# Altium footprint library L78L33ABUTR.PcbLib: 3 footprints
Each footprint in its own frame and in the unit in brackets; x right, y up, seen from the top. Pads: shape width x height; smd on the part's side, far side on the other; paste and mask are expansions set on the pad; w line width, h text height; cw(c..) or ccw(c..) is an arc to the next point about the centre after c.
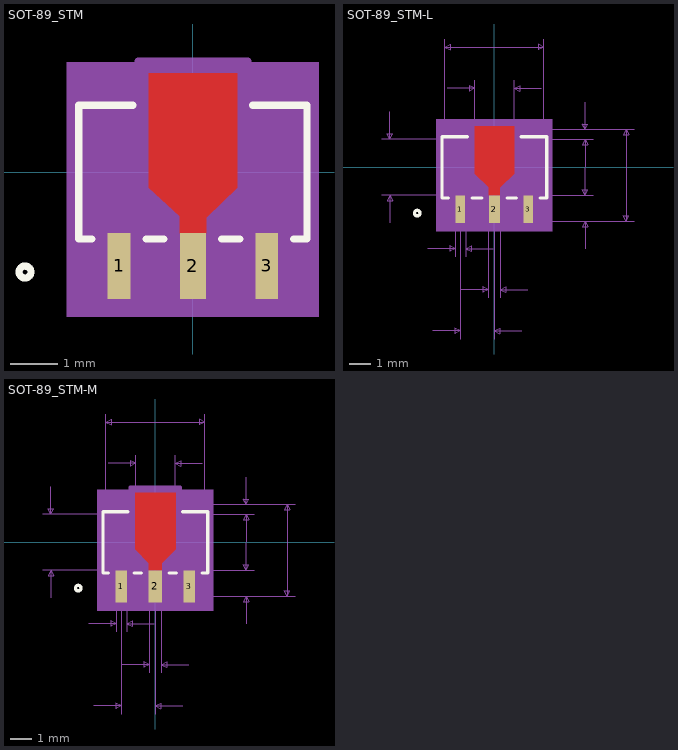
[diagram p0: the footprints below, top view; thin cyan lines are the x and y axes]

## SOT-89_STM [mil]
pads (3):
  rect 19x54.87 smd paste+0 mask+0: 1(-61.81,-78.44) 3(61.81,-78.44)
  rect 22x54.87 smd paste+0 mask+0: 2(0,-78.44)
Top Layer:
  region: 11,-51 -11,-51 -11,-37 -36.98,-12.98 -36.98,82.78 36.98,82.78 36.98,-12.98 11,-37.98
Top Overlay:
  circle w6: c-140.5,-83.5 r5
  lines w6: -84.41,-56 -95.5,-56 -95.5,56 -50.08,56 ; -39.21,-56 -24.1,-56 ; 24.1,-56 39.21,-56 ; 50.08,56 95.5,56 95.5,-56 84.41,-56
Top Paste:
  region: 11,-51 -11,-51 -11,-37 -36,-12 -36,76.87 36,76.87 36,-12 11,-37
Top Solder:
  region: 11,-51 -11,-51 -11,-37 -36,-12 -36,76.87 36,76.87 36,-12 11,-37
Mechanical 5:
  region: -105.5,91.87 105.5,91.87 105.5,-120.87 -105.5,-120.87
Mechanical 13:
  circle w0: c-80.5,-41 r5
  lines w1: -90.5,-51 -90.5,51 90.5,51 90.5,-51 -90.5,-51 ; -71.31,-98 -52.31,-98 -52.31,-51 -71.31,-51 -71.31,-98 ; -11,-98 11,-98 11,-51 -11,-51 -11,-98 ; 52.31,-98 71.31,-98 71.31,-51 52.31,-51 52.31,-98
Mechanical 15:
  region: -100.5,-61 -100.5,61 -46,61 -46,92.78 46,92.78 46,61 100.5,61 100.5,-61 81.81,-61 81.81,-115.87 -81.81,-115.87 -81.81,-61
  lines w6: -100.5,-61 -81.81,-61 -81.81,-115.87 81.81,-115.87 81.81,-61 100.5,-61 100.5,61 46,61 46,92.78 -46,92.78 -46,61 -100.5,61 -100.5,-61
3D body: height 10, standoff 0, extent 0,0 10,10

## SOT-89_STM-L [mm]
pads (3):
  rect 0.433x1.294 smd paste+0 mask+0: 1(-1.57,-1.942) 3(1.57,-1.942)
  rect 0.509x1.294 smd paste+0 mask+0: 2(0,-1.942)
Top Layer:
  region: 0.254,-1.295 -0.254,-1.295 -0.254,-0.915 -0.914,-0.305 -0.914,1.903 0.914,1.903 0.914,-0.305 0.254,-0.94
Top Overlay:
  circle w0.152: c-3.569,-2.121 r0.127
  lines w0.152: -2.119,-1.422 -2.426,-1.422 -2.426,1.422 -1.247,1.422 ; -1.021,-1.422 -0.587,-1.422 ; 0.587,-1.422 1.021,-1.422 ; 1.247,1.422 2.426,1.422 2.426,-1.422 2.119,-1.422
Top Paste:
  region: 0.254,-1.27 -0.254,-1.27 -0.254,-0.915 -0.889,-0.28 -0.889,1.853 0.889,1.853 0.889,-0.28 0.254,-0.915
Top Solder:
  region: 0.254,-1.27 -0.254,-1.27 -0.254,-0.915 -0.889,-0.28 -0.889,1.853 0.889,1.853 0.889,-0.28 0.254,-0.915
Mechanical 5:
  region: -2.68,2.234 2.68,2.234 2.68,-2.97 -2.68,-2.97
Mechanical 7:
  lines w0.025: -5.22,-1.295 0,-1.295 4.585,-1.295 ; -5.22,1.295 0,1.295 4.585,1.295 ; -4.839,-2.565 -4.839,-1.295 ; -4.839,2.565 -4.839,1.295 ; -3.081,-3.759 -1.811,-3.759 ; -2.84,-7.569 -1.57,-7.569 ; -2.299,1.295 -2.299,5.944 ; -2.184,3.658 -0.914,3.658 ; -1.811,-4.14 -1.811,-2.489 ; -1.57,-7.95 -1.57,-2.489 ; -1.549,-5.664 -0.279,-5.664 ; -1.329,-4.14 -1.329,-2.489 ; -0.914,1.753 -0.914,4.039 ; -0.279,-6.045 -0.279,-2.489 ; -0.059,-3.759 -1.329,-3.759 ; 0,-7.95 0,-2.489 ; 0.279,-6.045 0.279,-2.489 ; 0.914,1.753 0.914,4.039 ; 1.27,-7.569 0,-7.569 ; 1.549,-5.664 0.279,-5.664 ; 2.184,3.658 0.914,3.658 ; 2.299,1.295 2.299,5.944 ; 4.204,-3.759 4.204,-2.489 ; 4.204,-0.025 4.204,-1.295 ; 4.204,0.025 4.204,1.295 ; 4.204,3.023 4.204,1.753 ; 4.585,-2.489 0,-2.489 ; 4.585,1.753 0,1.753 6.49,1.753 ; 6.49,-2.489 0,-2.489 ; -4.839,-1.295 -4.966,-1.549 -4.712,-1.549 -4.839,-1.295 ; -4.839,1.295 -4.966,1.549 -4.712,1.549 -4.839,1.295 ; -2.299,5.563 2.299,5.563 ; -2.299,5.563 -2.045,5.69 -2.045,5.436 -2.299,5.563 ; -1.811,-3.759 -2.065,-3.632 -2.065,-3.886 -1.811,-3.759 ; -1.57,-7.569 -1.824,-7.442 -1.824,-7.696 -1.57,-7.569 ; -1.329,-3.759 -1.075,-3.632 -1.075,-3.886 -1.329,-3.759 ; -0.914,3.658 -1.168,3.785 -1.168,3.531 -0.914,3.658 ; -0.279,-5.664 -0.533,-5.537 -0.533,-5.791 -0.279,-5.664 ; 0,-7.569 0.254,-7.442 0.254,-7.696 0,-7.569 ; 0.279,-5.664 0.533,-5.537 0.533,-5.791 0.279,-5.664 ; 0.914,3.658 1.168,3.785 1.168,3.531 0.914,3.658 ; 2.299,5.563 2.045,5.69 2.045,5.436 2.299,5.563 ; 4.204,-2.489 4.077,-2.743 4.331,-2.743 4.204,-2.489 ; 4.204,-1.295 4.077,-1.041 4.331,-1.041 4.204,-1.295 ; 4.204,1.295 4.077,1.041 4.331,1.041 4.204,1.295 ; 4.204,1.753 4.077,2.007 4.331,2.007 4.204,1.753 ; 6.109,-2.489 6.109,1.753 ; 6.109,-2.489 5.982,-2.235 6.236,-2.235 6.109,-2.489 ; 6.109,1.753 5.982,1.499 6.236,1.499 6.109,1.753
  text "Default Padstyle: r43_129" at -7.938,-10.209 h1.27
  text "Pin 2 Padstyle: r51_129" at -7.302,-11.479 h1.27
  text "Alt 1 Padstyle: b152_229h76" at -8.572,-12.749 h1.27
  text "Alt 2 Padstyle: b229_152h76" at -8.572,-14.019 h1.27
  text "0.167in/4.242mm" at 6.617,-0.318 h0.64
  text "0.047in/1.194mm" at 4.712,-3.035 h0.64
  text "0.018in/0.457mm" at 4.712,2.032 h0.64
  text "0.062in/1.57mm" at -3.007,-8.712 h0.64
  text "0.022in/0.559mm" at 0.508,-6.807 h0.64
  text "0.019in/0.483mm" at -6.84,-4.902 h0.64
  text "0.072in/1.829mm" at -2.381,4.166 h0.64
  text "0.181in/4.597mm" at -2.381,6.071 h0.64
  text "0.102in/2.591mm" at -10.109,-0.318 h0.64
Mechanical 13:
  circle w0: c-2.045,-1.041 r0.127
  lines w0.025: -2.299,-1.295 2.299,-1.295 2.299,1.295 -2.299,1.295 -2.299,-1.295 ; -1.811,-2.489 -1.811,-1.295 -1.329,-1.295 -1.329,-2.489 -1.811,-2.489 ; -0.279,-2.489 -0.279,-1.295 0.279,-1.295 0.279,-2.489 -0.279,-2.489 ; 1.329,-2.489 1.329,-1.295 1.811,-1.295 1.811,-2.489 1.329,-2.489
Mechanical 15:
  region: -2.553,-1.549 -2.553,1.549 -1.168,1.549 -1.168,2.157 1.168,2.157 1.168,1.549 2.553,1.549 2.553,-1.549 2.078,-1.549 2.078,-2.843 -2.078,-2.843 -2.078,-1.549
  lines w0.152: -2.553,-1.549 -2.553,1.549 -1.168,1.549 -1.168,2.157 1.168,2.157 1.168,1.549 2.553,1.549 2.553,-1.549 2.078,-1.549 2.078,-2.843 -2.078,-2.843 -2.078,-1.549 -2.553,-1.549
3D body: height 0.25, standoff 0, extent 0,0 0.254,0.254

## SOT-89_STM-M [mm]
pads (3):
  rect 0.533x1.494 smd paste+0 mask+0: 1(-1.57,-2.042) 3(1.57,-2.042)
  rect 0.609x1.494 smd paste+0 mask+0: 2(0,-2.042)
Top Layer:
  region: 0.304,-1.295 -0.304,-1.295 -0.304,-0.965 -0.939,-0.33 -0.939,2.303 0.939,2.303 0.939,-0.33 0.304,-0.965
Top Overlay:
  circle w0.152: c-3.569,-2.121 r0.127
  lines w0.152: -2.169,-1.422 -2.426,-1.422 -2.426,1.422 -1.272,1.422 ; -0.971,-1.422 -0.637,-1.422 ; 0.637,-1.422 0.971,-1.422 ; 1.272,1.422 2.426,1.422 2.426,-1.422 2.169,-1.422
Top Paste:
  region: 0.304,-1.32 -0.304,-1.32 -0.304,-0.965 -0.939,-0.33 -0.939,2.053 0.939,2.053 0.939,-0.33 0.304,-0.965
Top Solder:
  region: 0.304,-1.32 -0.304,-1.32 -0.304,-0.965 -0.939,-0.33 -0.939,2.053 0.939,2.053 0.939,-0.33 0.304,-0.965
Mechanical 5:
  region: -2.68,2.434 2.68,2.434 2.68,-3.17 -2.68,-3.17
Mechanical 7:
  lines w0.025: -5.22,-1.295 0,-1.295 4.585,-1.295 ; -5.22,1.295 0,1.295 4.585,1.295 ; -4.839,-2.565 -4.839,-1.295 ; -4.839,2.565 -4.839,1.295 ; -3.081,-3.759 -1.811,-3.759 ; -2.84,-7.569 -1.57,-7.569 ; -2.299,1.295 -2.299,5.944 ; -2.184,3.658 -0.914,3.658 ; -1.811,-4.14 -1.811,-2.489 ; -1.57,-7.95 -1.57,-2.489 ; -1.549,-5.664 -0.279,-5.664 ; -1.329,-4.14 -1.329,-2.489 ; -0.914,1.753 -0.914,4.039 ; -0.279,-6.045 -0.279,-2.489 ; -0.059,-3.759 -1.329,-3.759 ; 0,-7.95 0,-2.489 ; 0.279,-6.045 0.279,-2.489 ; 0.914,1.753 0.914,4.039 ; 1.27,-7.569 0,-7.569 ; 1.549,-5.664 0.279,-5.664 ; 2.184,3.658 0.914,3.658 ; 2.299,1.295 2.299,5.944 ; 4.204,-3.759 4.204,-2.489 ; 4.204,-0.025 4.204,-1.295 ; 4.204,0.025 4.204,1.295 ; 4.204,3.023 4.204,1.753 ; 4.585,-2.489 0,-2.489 ; 4.585,1.753 0,1.753 6.49,1.753 ; 6.49,-2.489 0,-2.489 ; -4.839,-1.295 -4.966,-1.549 -4.712,-1.549 -4.839,-1.295 ; -4.839,1.295 -4.966,1.549 -4.712,1.549 -4.839,1.295 ; -2.299,5.563 2.299,5.563 ; -2.299,5.563 -2.045,5.69 -2.045,5.436 -2.299,5.563 ; -1.811,-3.759 -2.065,-3.632 -2.065,-3.886 -1.811,-3.759 ; -1.57,-7.569 -1.824,-7.442 -1.824,-7.696 -1.57,-7.569 ; -1.329,-3.759 -1.075,-3.632 -1.075,-3.886 -1.329,-3.759 ; -0.914,3.658 -1.168,3.785 -1.168,3.531 -0.914,3.658 ; -0.279,-5.664 -0.533,-5.537 -0.533,-5.791 -0.279,-5.664 ; 0,-7.569 0.254,-7.442 0.254,-7.696 0,-7.569 ; 0.279,-5.664 0.533,-5.537 0.533,-5.791 0.279,-5.664 ; 0.914,3.658 1.168,3.785 1.168,3.531 0.914,3.658 ; 2.299,5.563 2.045,5.69 2.045,5.436 2.299,5.563 ; 4.204,-2.489 4.077,-2.743 4.331,-2.743 4.204,-2.489 ; 4.204,-1.295 4.077,-1.041 4.331,-1.041 4.204,-1.295 ; 4.204,1.295 4.077,1.041 4.331,1.041 4.204,1.295 ; 4.204,1.753 4.077,2.007 4.331,2.007 4.204,1.753 ; 6.109,-2.489 6.109,1.753 ; 6.109,-2.489 5.982,-2.235 6.236,-2.235 6.109,-2.489 ; 6.109,1.753 5.982,1.499 6.236,1.499 6.109,1.753
  text "Default Padstyle: r53_149" at -7.938,-10.409 h1.27
  text "Pin 2 Padstyle: r61_149" at -7.302,-11.679 h1.27
  text "Alt 1 Padstyle: b152_229h76" at -8.572,-12.949 h1.27
  text "Alt 2 Padstyle: b229_152h76" at -8.572,-14.219 h1.27
  text "0.167in/4.242mm" at 6.617,-0.318 h0.64
  text "0.047in/1.194mm" at 4.712,-3.035 h0.64
  text "0.018in/0.457mm" at 4.712,2.032 h0.64
  text "0.062in/1.57mm" at -3.007,-8.712 h0.64
  text "0.022in/0.559mm" at 0.508,-6.807 h0.64
  text "0.019in/0.483mm" at -6.84,-4.902 h0.64
  text "0.072in/1.829mm" at -2.381,4.166 h0.64
  text "0.181in/4.597mm" at -2.381,6.071 h0.64
  text "0.102in/2.591mm" at -10.109,-0.318 h0.64
Mechanical 13:
  circle w0: c-2.045,-1.041 r0.127
  lines w0.025: -2.299,-1.295 2.299,-1.295 2.299,1.295 -2.299,1.295 -2.299,-1.295 ; -1.811,-2.489 -1.811,-1.295 -1.329,-1.295 -1.329,-2.489 -1.811,-2.489 ; -0.279,-2.489 -0.279,-1.295 0.279,-1.295 0.279,-2.489 -0.279,-2.489 ; 1.329,-2.489 1.329,-1.295 1.811,-1.295 1.811,-2.489 1.329,-2.489
Mechanical 15:
  region: -2.553,-1.549 -2.553,1.549 -1.168,1.549 -1.168,2.557 1.168,2.557 1.168,1.549 2.553,1.549 2.553,-1.549 2.078,-1.549 2.078,-3.043 -2.078,-3.043 -2.078,-1.549
  lines w0.152: -2.553,-1.549 -2.553,1.549 -1.168,1.549 -1.168,2.557 1.168,2.557 1.168,1.549 2.553,1.549 2.553,-1.549 2.078,-1.549 2.078,-3.043 -2.078,-3.043 -2.078,-1.549 -2.553,-1.549
3D body: height 0.25, standoff 0, extent 0,0 0.254,0.254